# EAGLE library part ADS1298 (library texas-instruments)
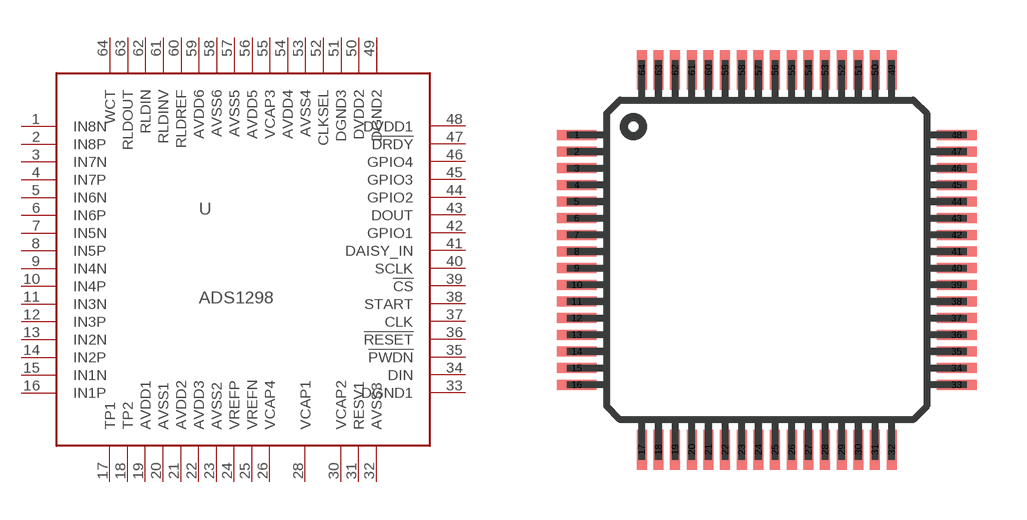
[diagram p1: symbol with the pads of TQFP64-10X10; footprint TQFP64-10X10]

Designator prefix -

## ADS1298-TQFP64  [TQFP64-10X10]
1  IN8N
2  IN8P
3  IN7N
4  IN7P
5  IN6N
6  IN6P
7  IN5N
8  IN5P
9  IN4N
10  IN4P
11  IN3N
12  IN3P
13  IN2N
14  IN2P
15  IN1N
16  IN1P
17  TP1
18  TP2
19  AVDD1
20  AVSS1
21  AVDD2
22  AVDD3
23  AVSS2
24  VREFP
25  VREFN
26  VCAP4
28  VCAP1
30  VCAP2
31  RESV1
32  AVSS3
33  DGND1
34  DIN
35  !PWDN
36  !RESET
37  CLK
38  START
39  !CS
40  SCLK
41  DAISY_IN
42  GPIO1
43  DOUT
44  GPIO2
45  GPIO3
46  GPIO4
47  !DRDY
48  DVDD1
49  DGND2
50  DVDD2
51  DGND3
52  CLKSEL
53  AVSS4
54  AVDD4
55  VCAP3
56  AVDD5
57  AVSS5
58  AVSS6
59  AVDD6
60  RLDREF
61  RLDINV
62  RLDIN
63  RLDOUT
64  WCT

## Footprint TQFP64-10X10 (pad centres in mm)
Thin Quad Flat Pack package type TQ
smd 1.2 x 0.3: 1 -5.7,3.75; 2 -5.7,3.25; 3 -5.7,2.75; 4 -5.7,2.25; 5 -5.7,1.75; 6 -5.7,1.25; 7 -5.7,0.75; 8 -5.7,0.25; 9 -5.7,-0.25; 10 -5.7,-0.75; 11 -5.7,-1.25; 12 -5.7,-1.75; 13 -5.7,-2.25; 14 -5.7,-2.75; 15 -5.7,-3.25; 16 -5.7,-3.75; 33 5.7,-3.75; 34 5.7,-3.25; 35 5.7,-2.75; 36 5.7,-2.25; 37 5.7,-1.75; 38 5.7,-1.25; 39 5.7,-0.75; 40 5.7,-0.25; 41 5.7,0.25; 42 5.7,0.75; 43 5.7,1.25; 44 5.7,1.75; 45 5.7,2.25; 46 5.7,2.75; 47 5.7,3.25; 48 5.7,3.75
smd 0.3 x 1.2: 17 -3.75,-5.7; 18 -3.25,-5.7; 19 -2.75,-5.7; 20 -2.25,-5.7; 21 -1.75,-5.7; 22 -1.25,-5.7; 23 -0.75,-5.7; 24 -0.25,-5.7; 25 0.25,-5.7; 26 0.75,-5.7; 27 1.25,-5.7; 28 1.75,-5.7; 29 2.25,-5.7; 30 2.75,-5.7; 31 3.25,-5.7; 32 3.75,-5.7; 49 3.75,5.7; 50 3.25,5.7; 51 2.75,5.7; 52 2.25,5.7; 53 1.75,5.7; 54 1.25,5.7; 55 0.75,5.7; 56 0.25,5.7; 57 -0.25,5.7; 58 -0.75,5.7; 59 -1.25,5.7; 60 -1.75,5.7; 61 -2.25,5.7; 62 -2.75,5.7; 63 -3.25,5.7; 64 -3.75,5.7